# Altium footprint library SnapEDApcb.PcbLib: 1 footprints
Each footprint in its own frame and in the unit in brackets; x right, y up, seen from the top. Pads: shape width x height; smd on the part's side, far side on the other; paste and mask are expansions set on the pad; w line width, h text height; cw(c..) or ccw(c..) is an arc to the next point about the centre after c.
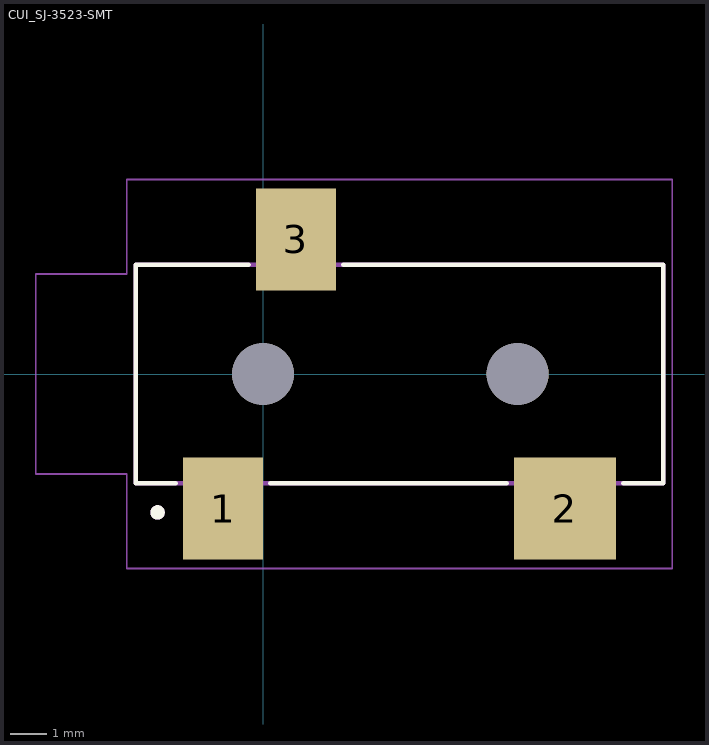
[diagram p0: the footprint, top view; thin cyan lines are the x and y axes]

## CUI_SJ-3523-SMT [mm]
pads (5):
  rect 2.2x2.8 smd: 1(-1.1,-3.7) 3(0.9,3.7)
  rect 2.8x2.8 smd: 2(8.3,-3.7)
  round 1.7 hole 1.7 unplated: ""(0,0) ""(7,0)
Top Overlay:
  circle w0.2: c-2.903,-3.808 r0.1
  lines w0.127: -2.4,-3 -3.5,-3 -3.5,-2.5 -3.5,2.5 -3.5,3 -0.4,3 ; 0.2,-3 6.7,-3 ; 2.2,3 11,3 11,-3 9.9,-3
Mechanical 13:
  circle w0.2: c-2.903,-3.808 r0.1
  lines w0.127: -3.5,-3 11,-3 11,3 -3.5,3 -3.5,-3
Mechanical 15:
  lines w0.05: -6.25,-2.75 -3.75,-2.75 -3.75,-5.35 11.25,-5.35 11.25,5.35 -3.75,5.35 -3.75,2.75 -6.25,2.75 -6.25,-2.75